# EAGLE library part RFM95 (library _c2h)
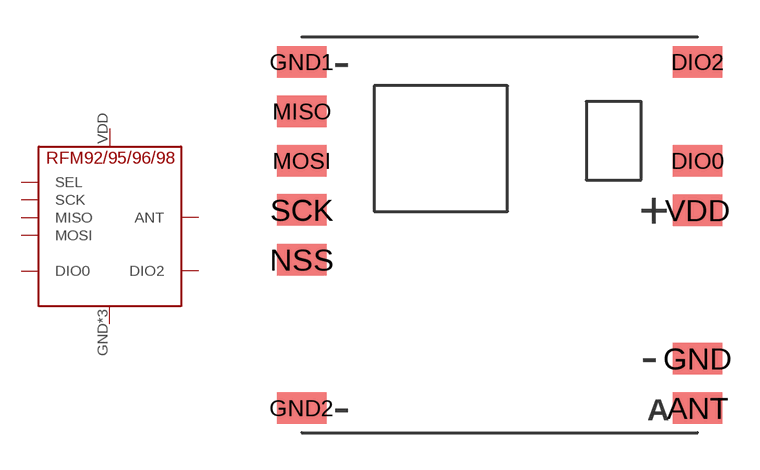
[diagram p0: symbol with the pads of RFM95; footprint RFM95]

Designator prefix -

## RFM95  [RFM95]
ANT  ANT  pas
DIO0  DIO0  oc
DIO2  DIO2  oc
GND  GND  pwr
GND1  GND  pwr
GND2  GND  pwr
MISO  MISO  in
MOSI  MOSI  out
NSS  SEL  in
SCK  SCK  in
VDD  VCC  pwr

## Footprint RFM95 (pad centres in mm)
smd 2 x 1.27: ANT 5.777,-7; DIO0 5.777,3; DIO2 5.779,7; GND 5.777,-5; GND1 -10.223,7; GND2 -10.23,-7; MISO -10.23,5; MOSI -10.225,3; NSS -10.223,-1; SCK -10.23,1.012; VDD 5.777,1